# Altium schematic symbol library Transistors.SchLib: 1 symbol
Pins are listed as number, name and electrical type; pins without a type are passive.

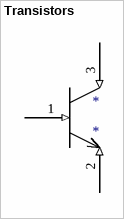
[diagram p0: symbol Transistors]

## Transistors
designator *
footprint BC817-40
pins: 1 Base (in), 2 Emiter (in), 3 Collector (in)